# Altium footprint library VESC_BMS.PcbLib: 78 footprints (part 1 of 5)
Each footprint in its own frame and in the unit in brackets; x right, y up, seen from the top. Pads: shape width x height; smd on the part's side, far side on the other; paste and mask are expansions set on the pad; w line width, h text height; cw(c..) or ccw(c..) is an arc to the next point about the centre after c.
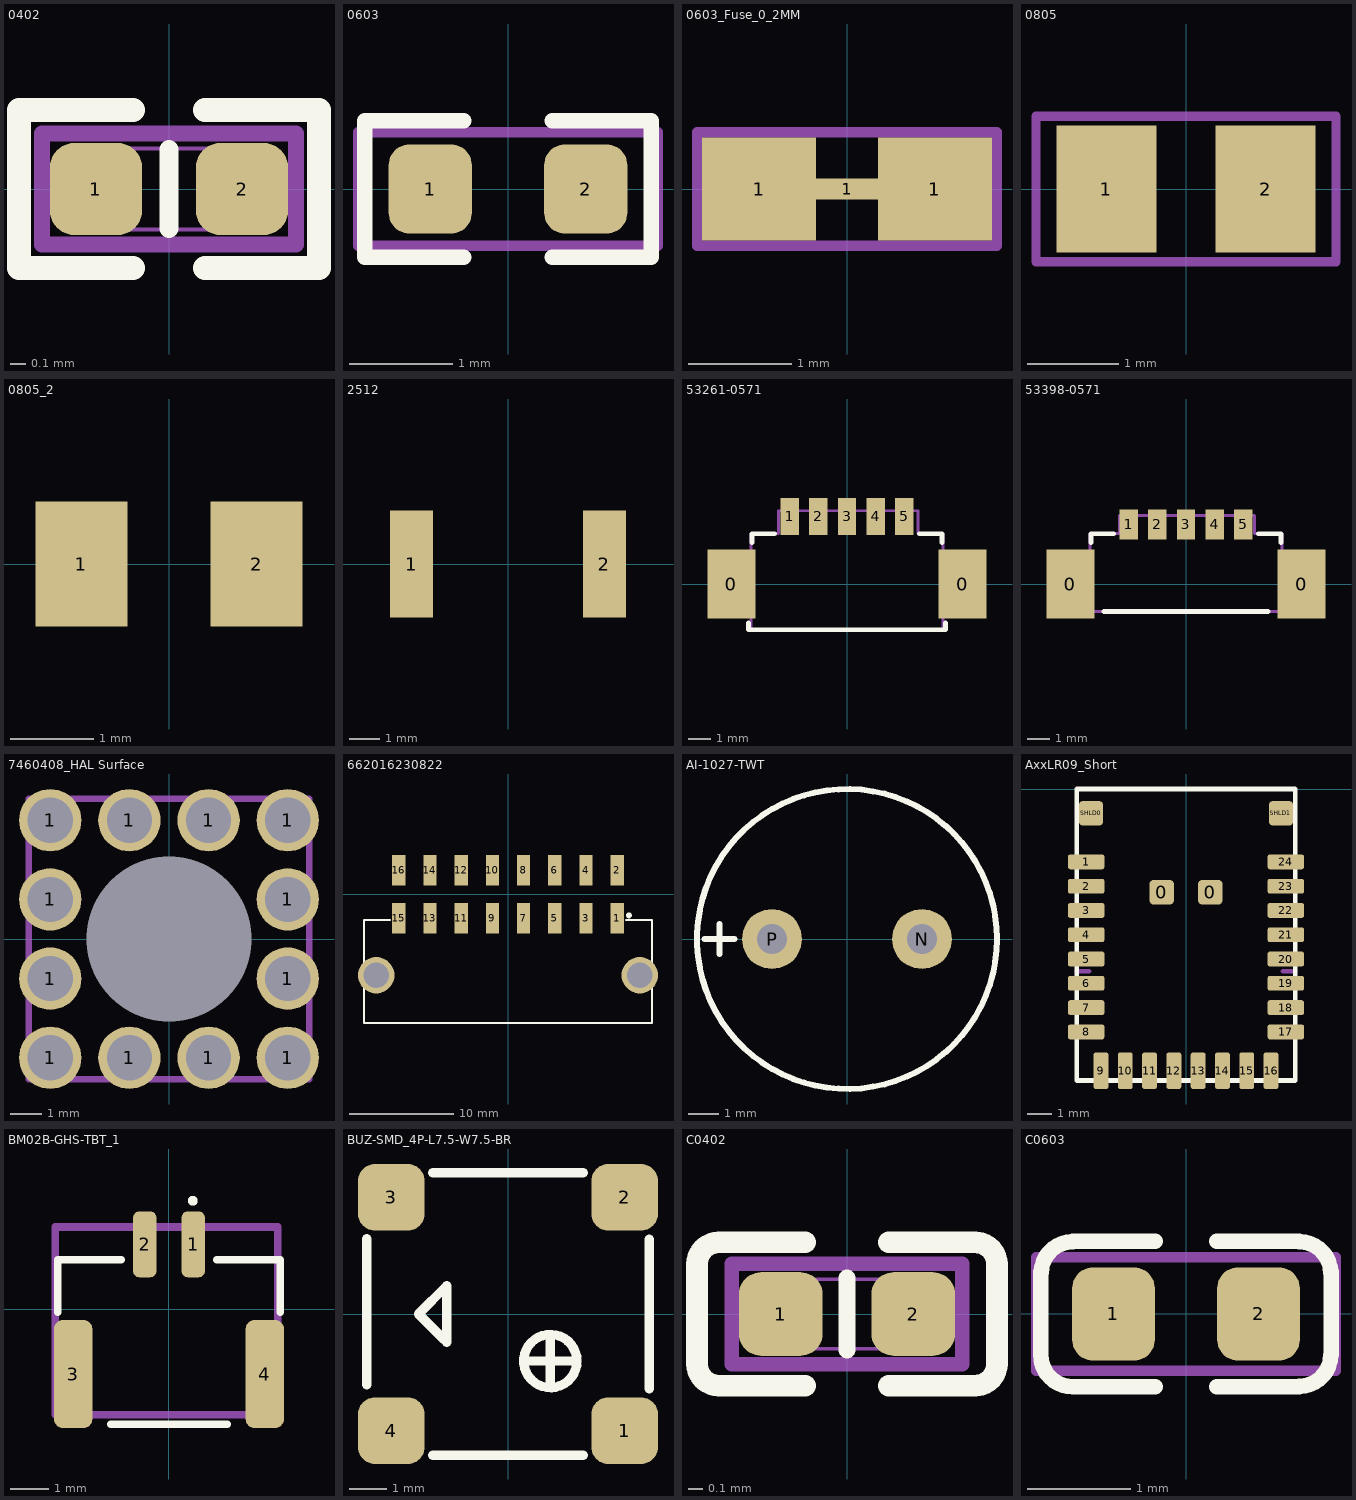
[diagram p0: the footprints below, top view; thin cyan lines are the x and y axes]

## 0402 [mm]
height 10
pads (2):
  rrect52% 0.58x0.58 smd mask+0.05: 1(-0.46,0) 2(0.46,0)
Top Overlay:
  lines w0.12: 0,-0.25 0,0.25
  lines w0.15: -0.226,-0.498 -0.945,-0.498 -0.945,0.498 -0.226,0.498 ; 0.226,-0.498 0.945,-0.498 0.945,0.498 0.226,0.498
Mechanical 1:
  lines w0.025: -0.495,-0.254 -0.495,0.254 0.495,0.254 0.495,-0.254 -0.495,-0.254
Mechanical 29:
  lines w0.1: -0.8,-0.35 -0.8,0.35 0.8,0.35 0.8,-0.35 -0.8,-0.35
  text ".Designator" at -0.8,-0.2 h0.4
3D body "RESC1005.STEP": height 0.4, standoff 0, extent -0.5,-0.25 0.5,0.25

## 0603 [mil]
height 53.15
pads (2):
  rrect50% 31.7x34 smd: 1(-29.6,0) 2(29.6,0)
Top Overlay:
  lines w5.9: -16.8,-26 -54.5,-26 -54.5,26 -16.8,26 ; 16.8,-26 54.5,-26 54.5,26 16.8,26
Mechanical 29:
  lines w3.94: -57.09,-21.65 57.09,-21.65 57.09,21.65 -57.09,21.65 -57.09,-21.65
  text ".Designator" at -57.87,-16.14 h31.5
3D body: height 17.72, standoff 0, extent -37.4,-17.72 -23.62,17.72
3D body: height 17.72, standoff 0, extent 23.62,-17.72 37.4,17.72
3D body: height 15.75, standoff 1.97, extent -35.43,-15.75 35.43,15.75
3D body: height 16.14, standoff 15.75, extent -9.84,-13.78 9.45,13.39

## 0603_Fuse_0_2MM [mm]
height 1.35
pads (3):
  rect 1.1x1 smd paste-1: 1(-0.85,0) 1(0.85,0)
  rect 1x0.2 smd paste-0.1: 1(0,0)
Mechanical 29:
  lines w0.1: -1.45,-0.55 -1.45,0.55 1.45,0.55 1.45,-0.55 -1.45,-0.55
  text ".Designator" at -1.47,-0.41 h0.8

## 0805 [mm]
height 1.1
pads (2):
  rect 1.1x1.4 smd: 1(-0.875,0) 2(0.875,0)
Mechanical 29:
  lines w0.1: -1.65,-0.8 -1.65,0.8 1.65,0.8 1.65,-0.8 -1.65,-0.8
  text ".Designator" at -1.66,-0.38 h0.8
3D body: height 0.6, standoff 0, extent -1.01,-0.64 -0.61,0.64
3D body: height 0.6, standoff 0, extent 0.61,-0.64 1.01,0.64
3D body: height 0.55, standoff 0.05, extent -1,-0.63 1,0.63
3D body: height 0.56, standoff 0.55, extent -0.25,-0.35 0.24,0.34

## 0805_2 [mm]
pads (2):
  rect 1.1x1.5 smd: 1(-1.05,0) 2(1.05,0)
3D body: height 0.6, standoff 0, extent -1.01,-0.64 -0.61,0.64
3D body: height 0.6, standoff 0, extent 0.61,-0.64 1.01,0.64
3D body: height 0.55, standoff 0.05, extent -1,-0.63 1,0.63
3D body: height 0.56, standoff 0.55, extent -0.25,-0.35 0.24,0.34

## 2512 [mm]
pads (2):
  rect 1.4x3.5 smd: 1(-3.15,0) 2(3.15,0)
3D body: height 0.6, standoff 0, extent 2.5,-1.6 3.2,1.6
3D body: height 0.55, standoff 0.05, extent -2.5,-1.6 2.5,1.6
3D body: height 0.6, standoff 0, extent -3.2,-1.6 -2.5,1.6
3D body: height 0.56, standoff 0.55, extent -0.25,-0.35 0.24,0.34

## 53261-0571 [mm]
height 3.4
pads (7):
  rect 2.1x3 smd: 0(-5.05,0) 0(5.05,0)
  rect 0.8x1.6 smd: 1(-2.5,2.95) 2(-1.25,2.95) 3(0,2.95) 4(1.25,2.95) 5(2.5,2.95)
Top Overlay:
  lines w0.2: -4.3,-1.7 -4.3,-2 4.3,-2 4.3,-1.7 ; -4.15,1.8 -4.15,2.2 -3.15,2.2 ; 3.15,2.2 4.15,2.2 4.15,1.8
Mechanical 29:
  lines w0.127: -4.2,-2 -4.2,2.2 -3,2.2 -3,3.2 3.1,3.2 3.1,2.2 4.2,2.2 4.2,-2 -4.2,-2
  text ".Designator" at -1.7,-0.5 h1
3D body "532610571.stp": height 3.41, standoff 0.01, extent -5.7,-2 5.7,3.2

## 53398-0571 [mm]
height 4.7
pads (7):
  rect 2.1x3 smd: 0(-5.05,0) 0(5.05,0)
  rect 0.8x1.3 smd: 1(-2.5,2.6) 2(-1.25,2.6) 3(0,2.6) 4(1.25,2.6) 5(2.5,2.6)
Top Overlay:
  lines w0.2: -4.15,1.8 -4.15,2.2 -3.15,2.2 ; -3.6,-1.2 3.6,-1.2 ; 3.15,2.2 4.15,2.2 4.15,1.8
Mechanical 29:
  lines w0.127: -4.2,-1.2 4.2,-1.2 4.2,2.2 3,2.2 3,3 -2.9,3 -2.9,2.2 -4.2,2.2 -4.2,-1.2
  text ".Designator" at -1.7,-0.3 h1
3D body "533980571.stp": height 4.71, standoff 0.01, extent -5.7,-1.15 5.7,3.05

## 7460408_HAL Surface [mm] "M5, thr 6mm"
height 9.5
pads (13):
  round 2 hole 1.45: 1(-3.81,-3.81) 1(-3.81,-1.27) 1(-3.81,1.27) 1(-3.81,3.81) 1(-1.27,-3.81) 1(-1.27,3.81) 1(1.27,-3.81) 1(1.27,3.81) 1(3.81,-3.81) 1(3.81,-1.27) 1(3.81,1.27) 1(3.81,3.81)
  round 0 hole 5.3: 1(0,0)
Mechanical 7:
  text "Copper 25um-60um" at -3.3,-6.2 h0.8
  text "Sn 15um max." at -2.3,-5.5 h0.8
Mechanical 13:
  lines w0.2: -4.5,-4.5 4.5,-4.5 4.5,4.5 -4.5,4.5 -4.5,-4.5
3D body "7460408.stp": height 6, standoff -3.5, extent -4.5,-4.5 4.5,4.5

## 662016230822 [mm] "Dual row SMT Right angle header With TH Metal Clip 16p"
height 8.76
pads (18):
  rect 1.27x2.92 smd: 1(10.5,-2.31) 2(10.5,2.31) 3(7.5,-2.31) 4(7.5,2.31) 5(4.5,-2.31) 6(4.5,2.31) 7(1.5,-2.3) 8(1.5,2.31) 9(-1.5,-2.31) 10(-1.5,2.31) 11(-4.5,-2.31) 12(-4.5,2.31) 13(-7.5,-2.31) 14(-7.5,2.31) 15(-10.5,-2.31) 16(-10.5,2.31)
  round 3.5 hole 2.41: ""(-12.66,-7.79) ""(12.66,-7.79)
Top Overlay:
  circle w0.28: c11.62,-2.04 r0.143
  lines w0.2: -11.35,-2.49 -13.85,-2.49 -13.85,-12.39 13.85,-12.39 13.85,-2.49 11.35,-2.49
3D body "662016230822.stp": height 8.83, standoff -3.03, extent -13.85,-12.39 13.85,3.51

## AI-1027-TWT [mm] "Buzzer low profile"
height 5
pads (2):
  round 2 hole 1: N(2.5,0) P(-2.5,0)
Top Overlay:
  circle w0.2: c0,0 r5
  lines w0.2: -4.75,0 -3.75,0 ; -4.25,-0.5 -4.25,0.5
Mechanical 29:
  circle w0.1: c0,0 r5
  text ".Designator" at -3.5,-0.5 h1
3D body "User Library-HCM1005.step": height 5.5, standoff -4, extent -5,-5 5,5

## AxxLR09_Short [mm] "AnarenCCModule"
height 2.1
pads (28):
  rrect30% 1x1 smd: 0(-1,-4.25) 0(1,-4.25) SHLD0(-3.91,-1) SHLD1(3.91,-1)
  rrect30% 1.5x0.61 smd: 1(-4.11,-3) 2(-4.11,-4) 3(-4.11,-5) 4(-4.11,-6) 5(-4.11,-7) 6(-4.11,-8) 7(-4.11,-9) 8(-4.11,-10) 17(4.11,-10) 18(4.11,-9) 19(4.11,-8) 20(4.11,-7) 21(4.11,-6) 22(4.11,-5) 23(4.11,-4) 24(4.11,-3)
  rrect30% 0.61x1.5 smd: 9(-3.5,-11.6) 10(-2.5,-11.6) 11(-1.5,-11.6) 12(-0.5,-11.6) 13(0.5,-11.6) 14(1.5,-11.6) 15(2.5,-11.6) 16(3.5,-11.6)
Top Overlay:
  lines w0.2: -4.5,-12 0,-12 4.5,-12 4.5,-7.5 4.5,0 -4.5,0 -4.5,-7.5 -4.5,-12
Mechanical 1:
  lines w0.2: -4.5,-7.5 -4,-7.5 ; 4,-7.5 4.5,-7.5
3D body "User Library-U_FL-R-SMT-1.step": height 1.75, standoff 0.49, extent -4.25,-3.05 -1.25,0.05
3D body: height 0.5, standoff 0.1, extent -4.5,-12 4.5,0
3D body: height 2.1, standoff 0.55, extent -4.3,-11.8 4.3,-3

## BM02B-GHS-TBT_1 [mm]
pads (4):
  rrect50% 0.6x1.7 smd: 1(0.625,1.675) 2(-0.625,1.675)
  rrect50% 1x2.8 smd: 3(-2.475,-1.675) 4(2.475,-1.675)
Top Overlay:
  circle w0.2: c0.616,2.801 r0.026
  lines w0.2: -2.875,-0.075 -2.875,1.275 -1.236,1.275 ; -1.5,-2.975 1.5,-2.975 ; 1.236,1.275 2.875,1.275 2.875,-0.075
Mechanical 1:
  lines w0.2: -2.94,-2.726 2.81,-2.726 2.81,2.126 0.771,2.126 -0.9,2.126 -2.94,2.126 -2.94,-2.726
3D body "CONN-SMD_SM02B-GHS.step": height 4.26, standoff 0, extent -2.875,-2.733 2.875,2.126

## BUZ-SMD_4P-L7.5-W7.5-BR [mm]
pads (4):
  rrect50% 1.8x1.8 smd: 1(3.15,-3.15) 2(3.15,3.15) 3(-3.15,3.15) 4(-3.15,-3.15)
Top Overlay:
  circle w0.254: c1.143,-1.27 r0.718
  lines w0.254: -3.81,-1.905 -3.81,2.032 ; -2.032,-3.81 2.032,-3.81 ; -2.032,3.81 2.032,3.81 ; 0.508,-1.27 1.778,-1.27 ; 1.143,-1.905 1.143,-0.635 ; 3.81,-2.019 3.81,2.019 ; -2.413,0 -1.778,-0.635 -1.651,-0.762 -1.651,-0.635 -1.651,0.762 -2.413,0
3D body "BUZ-SMD_4P-L7.5-W7.5-H2.5.step": height 2.51, standoff 0, extent -3.75,-3.75 3.75,3.75

## C0402 [mm]
height 1.35
pads (2):
  rrect52% 0.58x0.58 smd mask+0.05: 1(-0.46,0) 2(0.46,0)
Top Overlay:
  lines w0.12: 0,-0.25 0,0.25
  lines w0.15: -1.041,-0.348 ccw(c-0.889,-0.345) -0.889,-0.498 -0.289,-0.498 ; -1.041,-0.345 -1.041,0.345 ; -1.041,0.348 cw(c-0.889,0.345) -0.889,0.498 -0.289,0.498 ; 0.289,-0.498 0.889,-0.498 ccw(c0.889,-0.345) 1.041,-0.345 1.041,0.345 ccw(c0.889,0.345) 0.889,0.498 0.289,0.498
Mechanical 1:
  lines w0.025: -0.508,-0.241 -0.508,0.241 0.508,0.241 0.508,-0.241 -0.508,-0.241
Mechanical 29:
  lines w0.1: -0.8,-0.35 -0.8,0.35 0.8,0.35 0.8,-0.35 -0.8,-0.35
  text ".Designator" at -0.8,-0.2 h0.4
3D body "CAPC1005X55.STEP": height 0.55, standoff 0, extent -0.5,-0.25 0.5,0.25

## C0603 [mil]
height 53.15
pads (2):
  rrect50% 31.5x35.4 smd: 1(-27.6,0) 2(27.6,0)
Top Overlay:
  lines w5.9: -55.3,16 -55.3,-15.5 ccw(c-43.13,-15.53) -43.1,-27.7 -11.7,-27.7 ; -55.1,15.7 cw(c-43.13,15.53) -43.1,27.5 ; -43.1,27.7 -11.7,27.7 ; 11.7,-27.7 43.1,-27.7 ; 11.7,27.7 43.1,27.7 ; 43.1,-27.5 ccw(c43.13,-15.53) 55.1,-15.7 ; 43.1,27.5 cw(c43.13,15.53) 55.1,15.7 ; 55.3,-15.5 55.3,16
Mechanical 29:
  lines w3.94: -57.09,-21.65 -57.09,21.65 57.09,21.65 57.09,-21.65 -57.09,-21.65
  text ".Designator" at -57.09,-15.75 h31.5
3D body: height 15.75, standoff 1.97, extent -35.43,-15.75 35.43,15.75
3D body: height 17.72, standoff 0, extent 23.62,-17.72 37.4,17.72
3D body: height 17.72, standoff 0, extent -37.4,-17.72 -23.62,17.72
3D body: height 16.14, standoff 15.75, extent -11.02,-14.96 11.02,14.96